# Altium schematic symbol library LogicIC.Schlib: 6 symbols
Pins are listed as number, name and electrical type; pins without a type are passive.

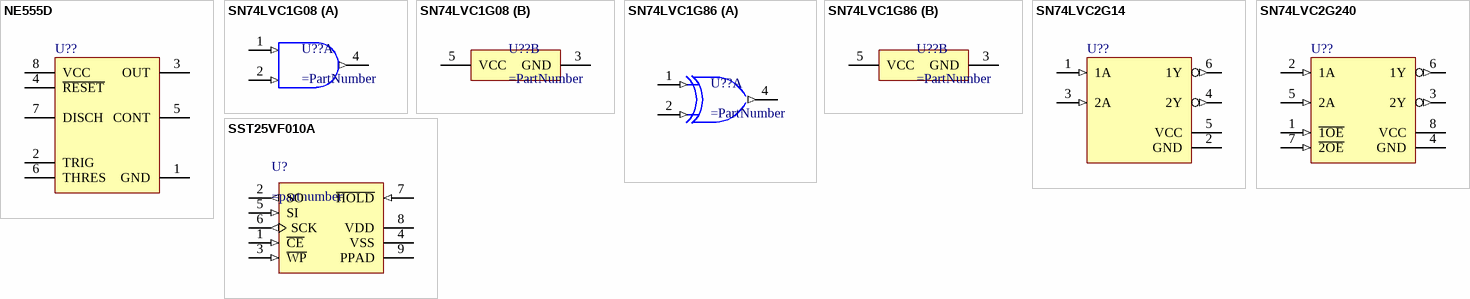
[diagram p0: symbols NE555D to SST25VF010A]

## NE555D
designator U??
pins: 1 GND, 2 TRIG, 3 OUT, 4 ~{RESET}, 5 CONT, 6 THRES, 7 DISCH, 8 VCC

## SN74LVC1G08
designator U??
part A pins: 1 1A (in), 2 1B (in), 4 1Y (out)
part B pins: 3 GND (power), 5 VCC (power)

## SN74LVC1G86
designator U??
part A pins: 1 1A (in), 2 1B (in), 4 1Y (out)
part B pins: 3 GND (power), 5 VCC (power)

## SN74LVC2G14
designator U??
pins: 1 1A (in), 2 GND (power), 3 2A (in), 4 2Y (out), 5 VCC (power), 6 1Y (out)

## SN74LVC2G240
designator U??
pins: 1 ~{1OE} (in), 2 1A (in), 3 2Y (out), 4 GND (power), 5 2A (in), 6 1Y (out), 7 ~{2OE} (in), 8 VCC (power)

## SST25VF010A
designator U?
pins: 1 ~{CE} (in), 2 SO (out), 3 ~{WP} (in), 4 VSS (power), 5 SI (in), 6 SCK (out), 7 ~{HOLD} (in), 8 VDD (power), 9 PPAD (power)